# EAGLE library part PCIE_MINI_CARD (library RitLaunchInitiative)
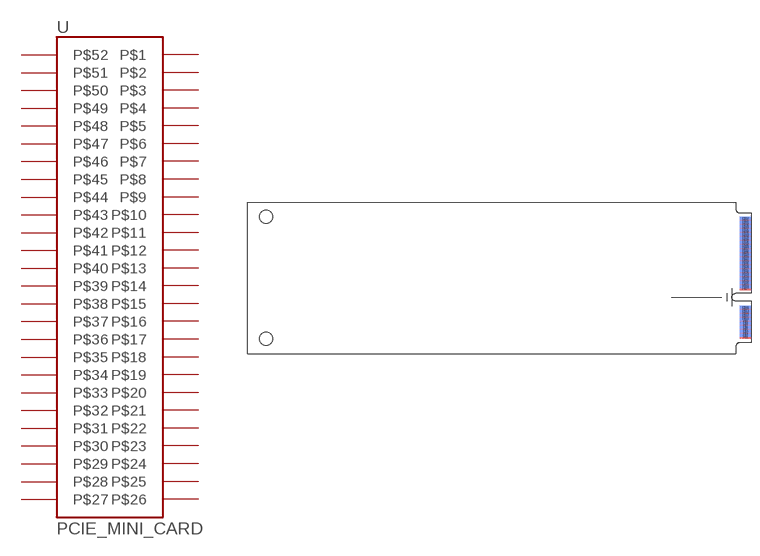
[diagram p16: symbol with the pads of PCIE_MINI_CARDEDGE; footprint PCIE_MINI_CARDEDGE]

Designator prefix -

## PCIE_MINI_CARD  [PCIE_MINI_CARDEDGE]
P$1  P$1
P$2  P$2
P$3  P$3
P$4  P$4
P$5  P$5
P$6  P$6
P$7  P$7
P$8  P$8
P$9  P$9
P$10  P$10
P$11  P$11
P$12  P$12
P$13  P$13
P$14  P$14
P$15  P$15
P$16  P$16
P$17  P$17
P$18  P$18
P$19  P$19
P$20  P$20
P$21  P$21
P$22  P$22
P$23  P$23
P$24  P$24
P$25  P$25
P$26  P$26
P$27  P$27
P$28  P$28
P$29  P$29
P$30  P$30
P$31  P$31
P$32  P$32
P$33  P$33
P$34  P$34
P$35  P$35
P$36  P$36
P$37  P$37
P$38  P$38
P$39  P$39
P$40  P$40
P$41  P$41
P$42  P$42
P$43  P$43
P$44  P$44
P$45  P$45
P$46  P$46
P$47  P$47
P$48  P$48
P$49  P$49
P$50  P$50
P$51  P$51
P$52  P$52

## Footprint PCIE_MINI_CARDEDGE (pad centres in mm)
smd 2.3 x 0.6: P$1 -1.275,-11.8; P$3 -1.275,-11; P$5 -1.275,-10.2; P$7 -1.275,-9.4; P$9 -1.275,-8.6; P$11 -1.275,-7.8; P$13 -1.275,-7; P$15 -1.275,-6.2; P$17 -1.275,-2.2; P$19 -1.275,-1.4; P$21 -1.275,-0.6; P$23 -1.275,0.2; P$25 -1.275,1; P$27 -1.275,1.8; P$29 -1.275,2.6; P$31 -1.275,3.4; P$33 -1.275,4.2; P$35 -1.275,5; P$37 -1.275,5.8; P$39 -1.275,6.6; P$41 -1.275,7.4; P$43 -1.275,8.2; P$45 -1.275,9; P$47 -1.275,9.8; P$49 -1.275,10.6; P$51 -1.275,11.4
smd 2.3 x 0.6 bottom: P$2 -1.275,-11.4; P$4 -1.275,-10.6; P$6 -1.275,-9.8; P$8 -1.275,-9; P$10 -1.275,-8.2; P$12 -1.275,-7.4; P$14 -1.275,-6.6; P$16 -1.275,-5.8; P$18 -1.275,-1.8; P$20 -1.275,-1; P$22 -1.275,-0.2; P$24 -1.275,0.6; P$26 -1.275,1.4; P$28 -1.275,2.2; P$30 -1.275,3; P$32 -1.275,3.8; P$34 -1.275,4.6; P$36 -1.275,5.4; P$38 -1.275,6.2; P$40 -1.275,7; P$42 -1.275,7.8; P$44 -1.275,8.6; P$46 -1.275,9.4; P$48 -1.275,10.2; P$50 -1.275,11; P$52 -1.275,11.8
hole 2.6 at -96.31,-12.1
hole 2.6 at -96.31,12.1